# Altium integrated library S-1212B,D_Voltage_Regulators.IntLib: 2 symbols
Pins are listed as number, name and electrical type; pins without a type are passive.

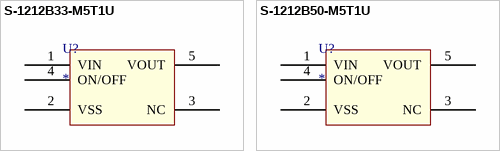
[diagram p0: symbols S-1212B33-M5T1U to S-1212B50-M5T1U]

## S-1212B33-M5T1U
designator U?
IC REG LINEAR 3.3V 250MA SOT23-5; Manufacturer 1: ABLIC; Manufacturer Part Number 1: S-1212B33-M5T1U; Supplier 1: Digi-Key; Stock 1: 5707; Pricing 1: 1=1.30000, 10=1.15300, 25=1.04120, 100=0.91100, 250=0.79944, 500=0.70648, 1000=0.55775 (USD); RoHS: No
footprint SOT-23-5
pins: 1 VIN, 2 VSS, 3 NC, 4 ON/OFF, 5 VOUT

## S-1212B50-M5T1U
designator U?
IC REG LINEAR 5V 250MA SOT23-5
footprint SOT-23-5
pins: 1 VIN, 2 VSS, 3 NC, 4 ON/OFF, 5 VOUT